# EAGLE library part RCA-4-117-01 (library dreimalbe)
Cinch-Anschlussplatte 72385 Gold, Rot, Weiß BKL Electronic Conrad Bestellnummer : 736910 - 62 Source: Data sheet <http://www.produktinfo.conrad.com/datenblaetter/725000-749999/736910-da-01-en-Cinch_Anschlussplatte_4polig.pdf>
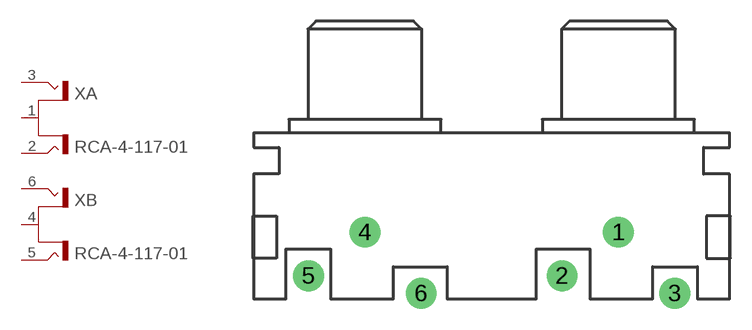
[diagram p4: symbol with the pads of RCA-4-117-01; footprint RCA-4-117-01]

Designator prefix X; gates A=CINCH2 B=CINCH2

## RCA-4-117-01  [RCA-4-117-01]
1  A:S  pas
2  A:T1  pas
3  A:T2  pas
4  B:S  pas
5  B:T1  pas
6  B:T2  pas

## Footprint RCA-4-117-01 (pad centres in mm)
RCA JACK DIP R/A 4pos Source: RCA-4-117-01x.pdf
drill 1.2 pad 2.184: 1 9,3.1; 2 5,0; 3 13,-1.25; 4 -9,3.1; 5 -13,0; 6 -5,-1.25